# Altium schematic symbol library WE-RJ45LAN.SchLib: 1 symbol
Pins are listed as number, name and electrical type; pins without a type are passive.

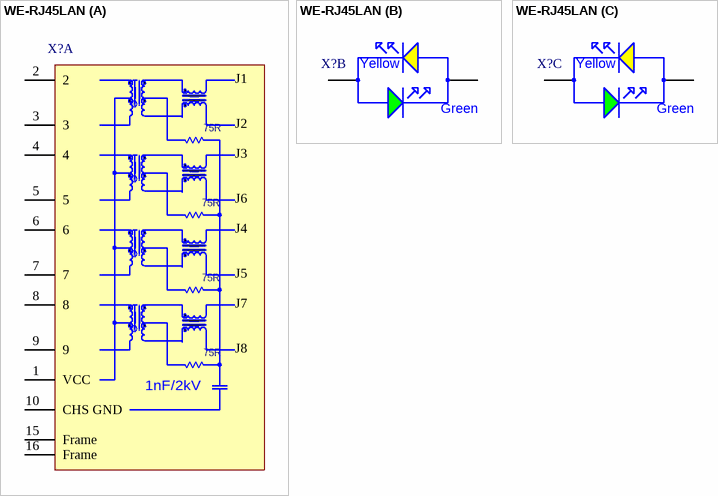
[diagram p0: symbol WE-RJ45LAN]

## WE-RJ45LAN
designator X?
part A pins: 1 VCC (power), 2, 3, 4, 5, 6, 7, 8, 9, 10 CHS GND (power), 15 Frame, 16 Frame
part B pins: 11 GREEN, 12 YELLOW
part C pins: 13 GREEN, 14 YELLOW
part A text: J1; 75R; J2; J3; J6; J4; J5; J7; J8; 1nF/2kV
part B text: Yellow; Green
part C text: Yellow; Green